# EAGLE library part PROM21 (library PT21)
This file is part of the ReProm Project DISCLAIMER: EVERYTHING IS PROVIDED AS IS, WITHOUT WARRANTY OF ANY KIND, THE DESIGN HASN'T BEEN VERIFIED, JUST FOR YOUR REFERENCE. NOT RESPONSIBLE FOR THE QUALITY. If you find any issues with this file, please create an issue in the repo github.com/ReisWeirdStuff/ReProm/
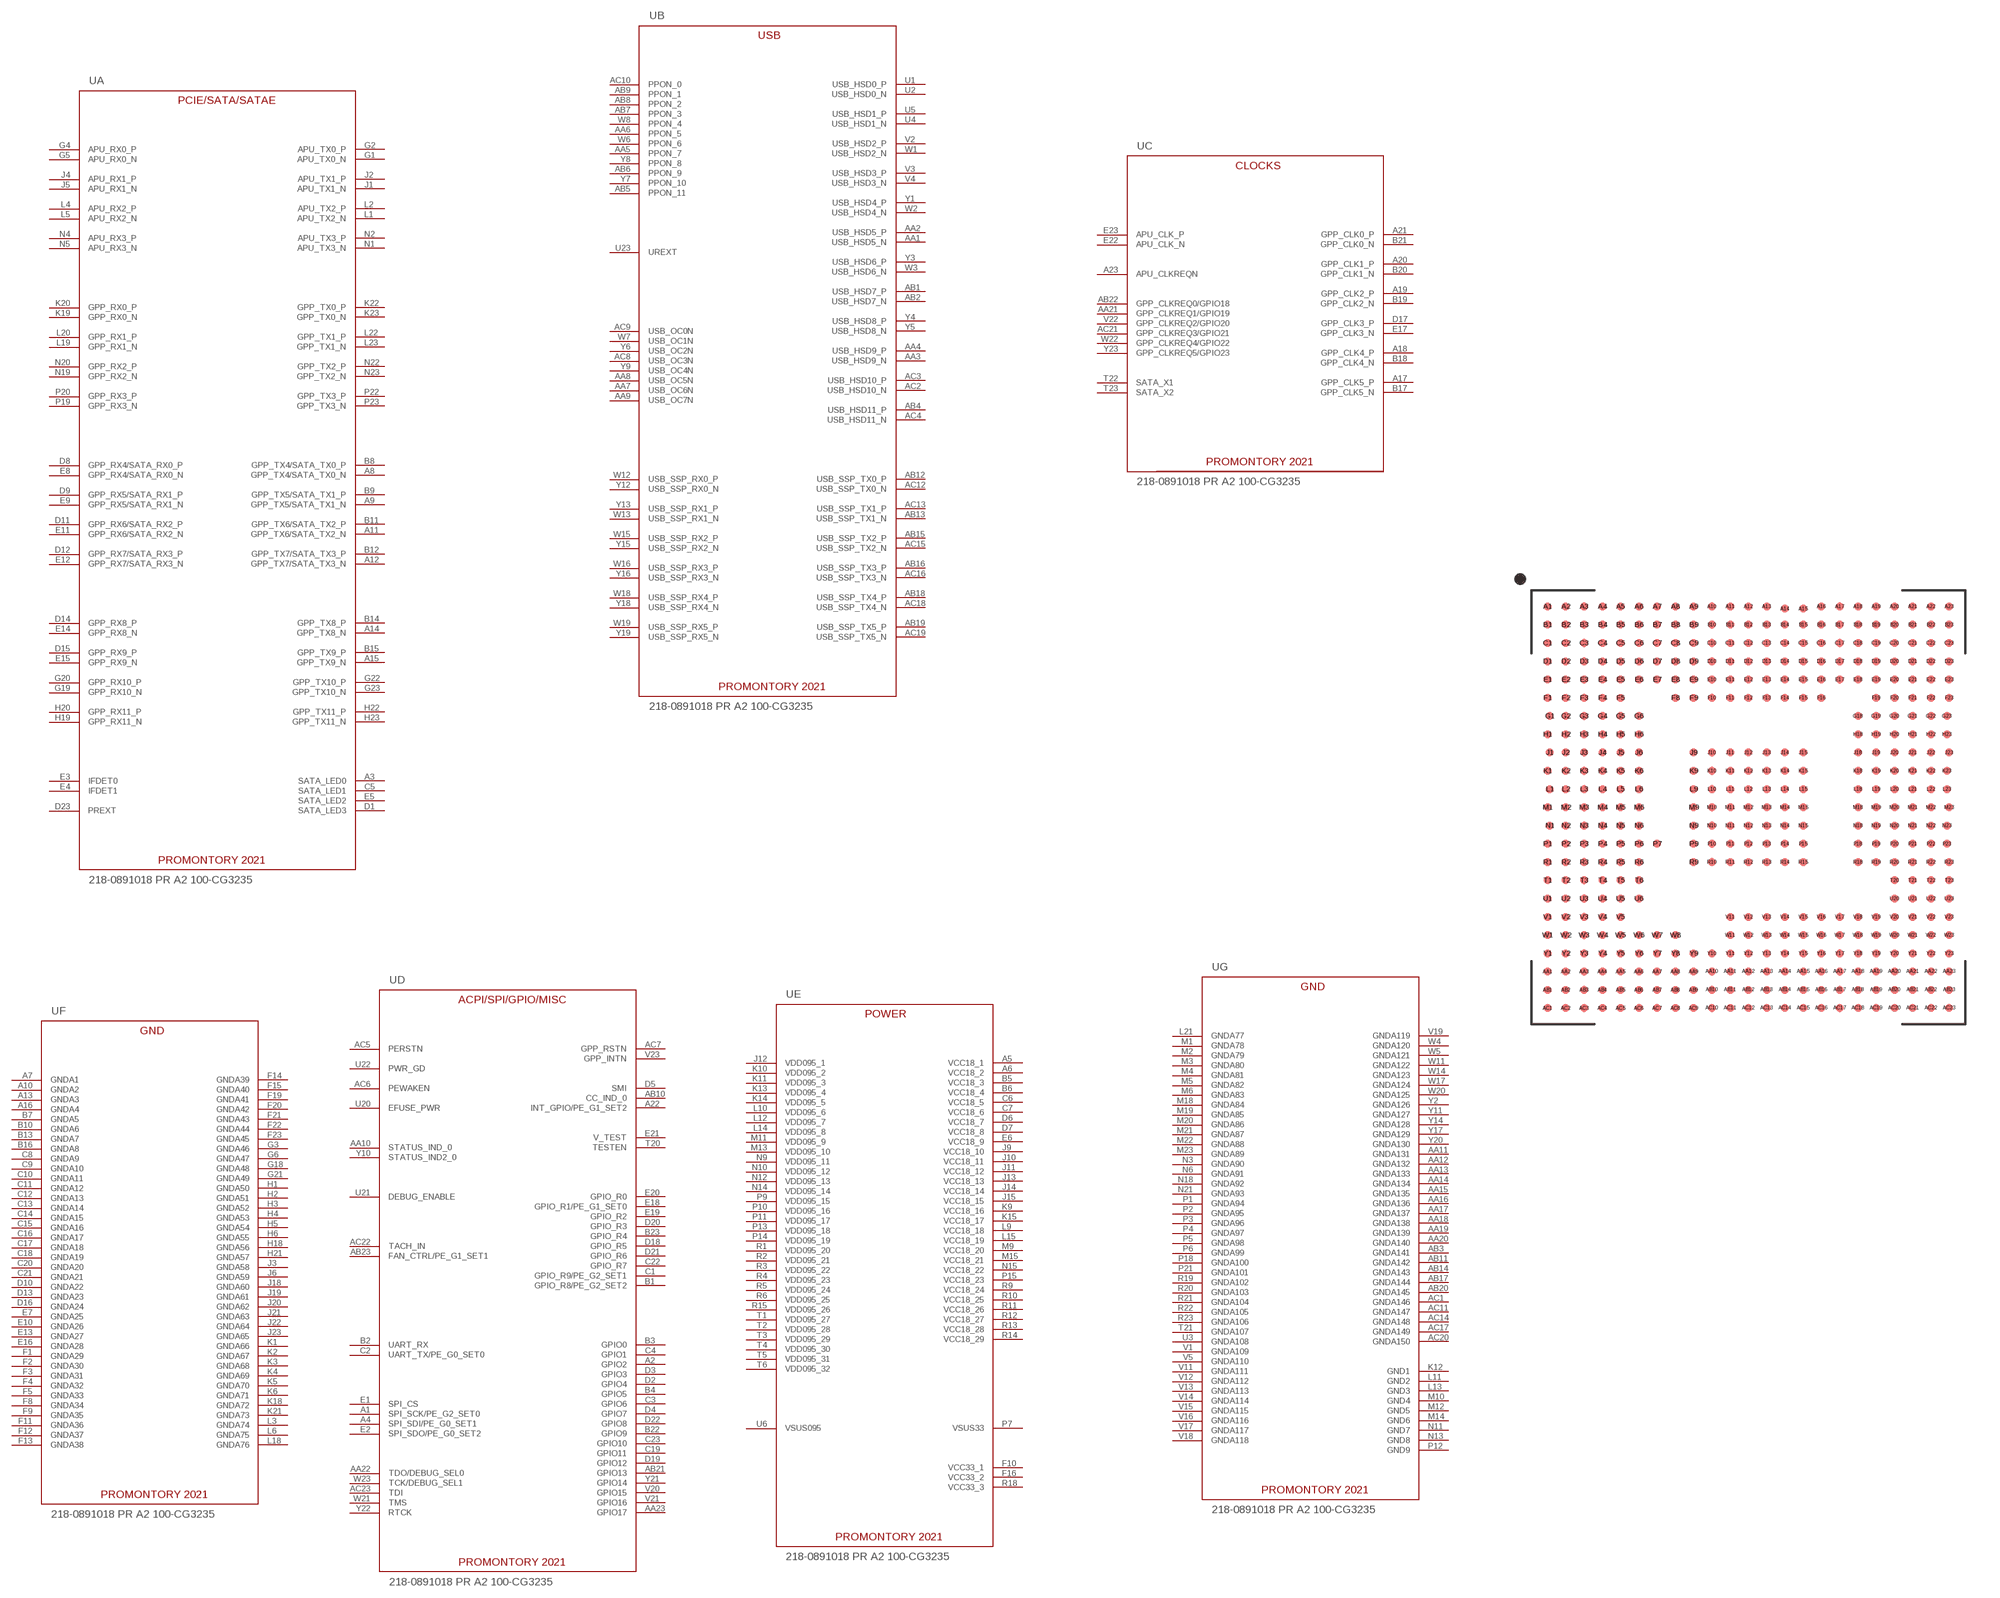
[diagram p0: symbol with the pads of PROM21_LFBGA_443P; footprint PROM21_LFBGA_443P]

Designator prefix -; gates A=PROM21_A B=PROM21_B C=PROM21_C D=PROM21_D E=PROM21_E F=PROM21_F G=PROM21_G

## PROM21A2  [PROM21_LFBGA_443P]
A1  D:SPI_SCK/PE_G2_SET0
A2  D:GPIO2
A3  A:SATA_LED0
A4  D:SPI_SDI/PE_G0_SET1
A5  E:VCC18_1
A6  E:VCC18_2
A7  F:GNDA1
A8  A:GPP_TX4/SATA_TX0_N
A9  A:GPP_TX5/SATA_TX1_N
A10  F:GNDA2
A11  A:GPP_TX6/SATA_TX2_N
A12  A:GPP_TX7/SATA_TX3_N
A13  F:GNDA3
A14  A:GPP_TX8_N
A15  A:GPP_TX9_N
A16  F:GNDA4
A17  C:GPP_CLK5_P
A18  C:GPP_CLK4_P
A19  C:GPP_CLK2_P
A20  C:GPP_CLK1_P
A21  C:GPP_CLK0_P
A22  D:INT_GPIO/PE_G1_SET2
A23  C:APU_CLKREQN
AA1  B:USB_HSD5_N
AA2  B:USB_HSD5_P
AA3  B:USB_HSD9_N
AA4  B:USB_HSD9_P
AA5  B:PPON_7
AA6  B:PPON_5
AA7  B:USB_OC6N
AA8  B:USB_OC5N
AA9  B:USB_OC7N
AA10  D:STATUS_IND_0
AA11  G:GNDA131
AA12  G:GNDA132
AA13  G:GNDA133
AA14  G:GNDA134
AA15  G:GNDA135
AA16  G:GNDA136
AA17  G:GNDA137
AA18  G:GNDA138
AA19  G:GNDA139
AA20  G:GNDA140
AA21  C:GPP_CLKREQ1/GPIO19
AA22  D:TDO/DEBUG_SEL0
AA23  D:GPIO17
AB1  B:USB_HSD7_P
AB2  B:USB_HSD7_N
AB3  G:GNDA141
AB4  B:USB_HSD11_P
AB5  B:PPON_11
AB6  B:PPON_9
AB7  B:PPON_3
AB8  B:PPON_2
AB9  B:PPON_1
AB10  D:CC_IND_0
AB11  G:GNDA142
AB12  B:USB_SSP_TX0_P
AB13  B:USB_SSP_TX1_N
AB14  G:GNDA143
AB15  B:USB_SSP_TX2_P
AB16  B:USB_SSP_TX3_P
AB17  G:GNDA144
AB18  B:USB_SSP_TX4_P
AB19  B:USB_SSP_TX5_P
AB20  G:GNDA145
AB21  D:GPIO13
AB22  C:GPP_CLKREQ0/GPIO18
AB23  D:FAN_CTRL/PE_G1_SET1
AC1  G:GNDA146
AC2  B:USB_HSD10_N
AC3  B:USB_HSD10_P
AC4  B:USB_HSD11_N
AC5  D:PERSTN
AC6  D:PEWAKEN
AC7  D:GPP_RSTN
AC8  B:USB_OC3N
AC9  B:USB_OC0N
AC10  B:PPON_0
AC11  G:GNDA147
AC12  B:USB_SSP_TX0_N
AC13  B:USB_SSP_TX1_P
AC14  G:GNDA148
AC15  B:USB_SSP_TX2_N
AC16  B:USB_SSP_TX3_N
AC17  G:GNDA149
AC18  B:USB_SSP_TX4_N
AC19  B:USB_SSP_TX5_N
AC20  G:GNDA150
AC21  C:GPP_CLKREQ3/GPIO21
AC22  D:TACH_IN
AC23  D:TDI
B1  D:GPIO_R8/PE_G2_SET2
B2  D:UART_RX
B3  D:GPIO0
B4  D:GPIO5
B5  E:VCC18_3
B6  E:VCC18_4
B7  F:GNDA5
B8  A:GPP_TX4/SATA_TX0_P
B9  A:GPP_TX5/SATA_TX1_P
B10  F:GNDA6
B11  A:GPP_TX6/SATA_TX2_P
B12  A:GPP_TX7/SATA_TX3_P
B13  F:GNDA7
B14  A:GPP_TX8_P
B15  A:GPP_TX9_P
B16  F:GNDA8
B17  C:GPP_CLK5_N
B18  C:GPP_CLK4_N
B19  C:GPP_CLK2_N
B20  C:GPP_CLK1_N
B21  C:GPP_CLK0_N
B22  D:GPIO9
B23  D:GPIO_R4
C1  D:GPIO_R9/PE_G2_SET1
C2  D:UART_TX/PE_G0_SET0
C3  D:GPIO6
C4  D:GPIO1
C5  A:SATA_LED1
C6  E:VCC18_5
C7  E:VCC18_6
C8  F:GNDA9
C9  F:GNDA10
C10  F:GNDA11
C11  F:GNDA12
C12  F:GNDA13
C13  F:GNDA14
C14  F:GNDA15
C15  F:GNDA16
C16  F:GNDA17
C17  F:GNDA18
C18  F:GNDA19
C19  D:GPIO11
C20  F:GNDA20
C21  F:GNDA21
C22  D:GPIO_R7
C23  D:GPIO10
D1  A:SATA_LED3
D2  D:GPIO4
D3  D:GPIO3
D4  D:GPIO7
D5  D:SMI
D6  E:VCC18_7
D7  E:VCC18_8
D8  A:GPP_RX4/SATA_RX0_P
D9  A:GPP_RX5/SATA_RX1_P
D10  F:GNDA22
D11  A:GPP_RX6/SATA_RX2_P
D12  A:GPP_RX7/SATA_RX3_P
D13  F:GNDA23
D14  A:GPP_RX8_P
D15  A:GPP_RX9_P
D16  F:GNDA24
D17  C:GPP_CLK3_P
D18  D:GPIO_R5
D19  D:GPIO12
D20  D:GPIO_R3
D21  D:GPIO_R6
D22  D:GPIO8
D23  A:PREXT
E1  D:SPI_CS
E2  D:SPI_SDO/PE_G0_SET2
E3  A:IFDET0
E4  A:IFDET1
E5  A:SATA_LED2
E6  E:VCC18_9
E7  F:GNDA25
E8  A:GPP_RX4/SATA_RX0_N
E9  A:GPP_RX5/SATA_RX1_N
E10  F:GNDA26
E11  A:GPP_RX6/SATA_RX2_N
E12  A:GPP_RX7/SATA_RX3_N
E13  F:GNDA27
E14  A:GPP_RX8_N
E15  A:GPP_RX9_N
E16  F:GNDA28
E17  C:GPP_CLK3_N
E18  D:GPIO_R1/PE_G1_SET0
E19  D:GPIO_R2
E20  D:GPIO_R0
E21  D:V_TEST
E22  C:APU_CLK_N
E23  C:APU_CLK_P
F1  F:GNDA29
F2  F:GNDA30
F3  F:GNDA31
F4  F:GNDA32
F5  F:GNDA33
F8  F:GNDA34
F9  F:GNDA35
F10  E:VCC33_1
F11  F:GNDA36
F12  F:GNDA37
F13  F:GNDA38
F14  F:GNDA39
F15  F:GNDA40
F16  E:VCC33_2
F19  F:GNDA41
F20  F:GNDA42
F21  F:GNDA43
F22  F:GNDA44
F23  F:GNDA45
G1  A:APU_TX0_N
G2  A:APU_TX0_P
G3  F:GNDA46
G4  A:APU_RX0_P
G5  A:APU_RX0_N
G6  F:GNDA47
G18  F:GNDA48
G19  A:GPP_RX10_N
G20  A:GPP_RX10_P
G21  F:GNDA49
G22  A:GPP_TX10_P
G23  A:GPP_TX10_N
H1  F:GNDA50
H2  F:GNDA51
H3  F:GNDA52
H4  F:GNDA53
H5  F:GNDA54
H6  F:GNDA55
H18  F:GNDA56
H19  A:GPP_RX11_N
H20  A:GPP_RX11_P
H21  F:GNDA57
H22  A:GPP_TX11_P
H23  A:GPP_TX11_N
J1  A:APU_TX1_N
J2  A:APU_TX1_P
J3  F:GNDA58
J4  A:APU_RX1_P
J5  A:APU_RX1_N
J6  F:GNDA59
J9  E:VCC18_10
J10  E:VCC18_11
J11  E:VCC18_12
J12  E:VDD095_1
J13  E:VCC18_13
J14  E:VCC18_14
J15  E:VCC18_15
J18  F:GNDA60
J19  F:GNDA61
J20  F:GNDA62
J21  F:GNDA63
J22  F:GNDA64
J23  F:GNDA65
K1  F:GNDA66
K2  F:GNDA67
K3  F:GNDA68
K4  F:GNDA69
K5  F:GNDA70
K6  F:GNDA71
K9  E:VCC18_16
K10  E:VDD095_2
K11  E:VDD095_3
K12  G:GND1
K13  E:VDD095_4
K14  E:VDD095_5
K15  E:VCC18_17
K18  F:GNDA72
K19  A:GPP_RX0_N
K20  A:GPP_RX0_P
K21  F:GNDA73
K22  A:GPP_TX0_P
K23  A:GPP_TX0_N
L1  A:APU_TX2_N
L2  A:APU_TX2_P
L3  F:GNDA74
L4  A:APU_RX2_P
L5  A:APU_RX2_N
L6  F:GNDA75
L9  E:VCC18_18
L10  E:VDD095_6
L11  G:GND2
L12  E:VDD095_7
L13  G:GND3
L14  E:VDD095_8
L15  E:VCC18_19
L18  F:GNDA76
L19  A:GPP_RX1_N
L20  A:GPP_RX1_P
L21  G:GNDA77
L22  A:GPP_TX1_P
L23  A:GPP_TX1_N
M1  G:GNDA78
M2  G:GNDA79
M3  G:GNDA80
M4  G:GNDA81
M5  G:GNDA82
M6  G:GNDA83
M9  E:VCC18_20
M10  G:GND4
M11  E:VDD095_9
M12  G:GND5
M13  E:VDD095_10
M14  G:GND6
M15  E:VCC18_21
M18  G:GNDA84
M19  G:GNDA85
M20  G:GNDA86
M21  G:GNDA87
M22  G:GNDA88
M23  G:GNDA89
N1  A:APU_TX3_N
N2  A:APU_TX3_P
N3  G:GNDA90
N4  A:APU_RX3_P
N5  A:APU_RX3_N
N6  G:GNDA91
N9  E:VDD095_11
N10  E:VDD095_12
N11  G:GND7
N12  E:VDD095_13
N13  G:GND8
N14  E:VDD095_14
N15  E:VCC18_22
N18  G:GNDA92
N19  A:GPP_RX2_N
N20  A:GPP_RX2_P
N21  G:GNDA93
N22  A:GPP_TX2_P
N23  A:GPP_TX2_N
P1  G:GNDA94
P2  G:GNDA95
P3  G:GNDA96
P4  G:GNDA97
P5  G:GNDA98
P6  G:GNDA99
P7  E:VSUS33
P9  E:VDD095_15
P10  E:VDD095_16
P11  E:VDD095_17
P12  G:GND9
P13  E:VDD095_18
P14  E:VDD095_19
P15  E:VCC18_23
P18  G:GNDA100
P19  A:GPP_RX3_N
P20  A:GPP_RX3_P
P21  G:GNDA101
P22  A:GPP_TX3_P
P23  A:GPP_TX3_N
R1  E:VDD095_20
R2  E:VDD095_21
R3  E:VDD095_22
R4  E:VDD095_23
R5  E:VDD095_24
R6  E:VDD095_25
R9  E:VCC18_24
R10  E:VCC18_25
R11  E:VCC18_26
R12  E:VCC18_27
R13  E:VCC18_28
R14  E:VCC18_29
R15  E:VDD095_26
R18  E:VCC33_3
R19  G:GNDA102
R20  G:GNDA103
R21  G:GNDA104
R22  G:GNDA105
R23  G:GNDA106
T1  E:VDD095_27
T2  E:VDD095_28
T3  E:VDD095_29
T4  E:VDD095_30
T5  E:VDD095_31
T6  E:VDD095_32
T20  D:TESTEN
T21  G:GNDA107
T22  C:SATA_X1
T23  C:SATA_X2
U1  B:USB_HSD0_P
U2  B:USB_HSD0_N
U3  G:GNDA108
U4  B:USB_HSD1_N
U5  B:USB_HSD1_P
U6  E:VSUS095
U20  D:EFUSE_PWR
U21  D:DEBUG_ENABLE
U22  D:PWR_GD
U23  B:UREXT
V1  G:GNDA109
V2  B:USB_HSD2_P
V3  B:USB_HSD3_P
V4  B:USB_HSD3_N
V5  G:GNDA110
V11  G:GNDA111
V12  G:GNDA112
V13  G:GNDA113
V14  G:GNDA114
V15  G:GNDA115
V16  G:GNDA116
V17  G:GNDA117
V18  G:GNDA118
V19  G:GNDA119
V20  D:GPIO15
V21  D:GPIO16
V22  C:GPP_CLKREQ2/GPIO20
V23  D:GPP_INTN
W1  B:USB_HSD2_N
W2  B:USB_HSD4_N
W3  B:USB_HSD6_N
W4  G:GNDA120
W5  G:GNDA121
W6  B:PPON_6
W7  B:USB_OC1N
W8  B:PPON_4
W11  G:GNDA122
W12  B:USB_SSP_RX0_P
W13  B:USB_SSP_RX1_N
W14  G:GNDA123
W15  B:USB_SSP_RX2_P
W16  B:USB_SSP_RX3_P
W17  G:GNDA124
W18  B:USB_SSP_RX4_P
W19  B:USB_SSP_RX5_P
W20  G:GNDA125
W21  D:TMS
W22  C:GPP_CLKREQ4/GPIO22
W23  D:TCK/DEBUG_SEL1
Y1  B:USB_HSD4_P
Y2  G:GNDA126
Y3  B:USB_HSD6_P
Y4  B:USB_HSD8_P
Y5  B:USB_HSD8_N
Y6  B:USB_OC2N
Y7  B:PPON_10
Y8  B:PPON_8
Y9  B:USB_OC4N
Y10  D:STATUS_IND2_0
Y11  G:GNDA127
Y12  B:USB_SSP_RX0_N
Y13  B:USB_SSP_RX1_P
Y14  G:GNDA128
Y15  B:USB_SSP_RX2_N
Y16  B:USB_SSP_RX3_N
Y17  G:GNDA129
Y18  B:USB_SSP_RX4_N
Y19  B:USB_SSP_RX5_N
Y20  G:GNDA130
Y21  D:GPIO14
Y22  D:RTCK
Y23  C:GPP_CLKREQ5/GPIO23

## Footprint PROM21_LFBGA_443P (pad centres in mm)
Package Description Package Type: FC-BGA Package Size: 19.00 x 19.00 x 2.1 mm Package Pins: 443 Pins Package BGA Pitch: 800μm
smd 0.35 x 0.35: A1 -8.8,8.8; A2 -8,8.8; A3 -7.2,8.8; A4 -6.4,8.8; A5 -5.6,8.8; A6 -4.8,8.8; A7 -4,8.8; A8 -3.2,8.8; A9 -2.4,8.8; A10 -1.6,8.8; A11 -0.8,8.8; A12 0,8.8; A13 0.8,8.8; A14 1.6,8.7; A15 2.4,8.7; A16 3.2,8.8; A17 4,8.8; A18 4.8,8.8; A19 5.6,8.8; A20 6.4,8.8; A21 7.2,8.8; A22 8,8.8; A23 8.8,8.8; AA1 -8.8,-7.2; AA2 -8,-7.2; AA3 -7.2,-7.2; AA4 -6.4,-7.2; AA5 -5.6,-7.2; AA6 -4.8,-7.2; AA7 -4,-7.2; AA8 -3.2,-7.2; AA9 -2.4,-7.2; AA10 -1.6,-7.2; AA11 -0.8,-7.2; AA12 0,-7.2; AA13 0.8,-7.2; AA14 1.6,-7.2; AA15 2.4,-7.2; AA16 3.2,-7.2; AA17 4,-7.2; AA18 4.8,-7.2; AA19 5.6,-7.2; AA20 6.4,-7.2; AA21 7.2,-7.2; AA22 8,-7.2; AA23 8.8,-7.2; AB1 -8.8,-8; AB2 -8,-8; AB3 -7.2,-8; AB4 -6.4,-8; AB5 -5.6,-8; AB6 -4.8,-8; AB7 -4,-8; AB8 -3.2,-8; AB9 -2.4,-8; AB10 -1.6,-8; AB11 -0.8,-8; AB12 0,-8; AB13 0.8,-8; AB14 1.6,-8; AB15 2.4,-8; AB16 3.2,-8; AB17 4,-8; AB18 4.8,-8; AB19 5.6,-8; AB20 6.4,-8; AB21 7.2,-8; AB22 8,-8; AB23 8.8,-8; AC1 -8.8,-8.8; AC2 -8,-8.8; AC3 -7.2,-8.8; AC4 -6.4,-8.8; AC5 -5.6,-8.8; AC6 -4.8,-8.8; AC7 -4,-8.8; AC8 -3.2,-8.8; AC9 -2.4,-8.8; AC10 -1.6,-8.8; AC11 -0.8,-8.8; AC12 0,-8.8; AC13 0.8,-8.8; AC14 1.6,-8.8; AC15 2.4,-8.8; AC16 3.2,-8.8; AC17 4,-8.8; AC18 4.8,-8.8; AC19 5.6,-8.8; AC20 6.4,-8.8; AC21 7.2,-8.8; AC22 8,-8.8; AC23 8.8,-8.8; B1 -8.8,8; B2 -8,8; B3 -7.2,8; B4 -6.4,8; B5 -5.6,8; B6 -4.8,8; B7 -4,8; B8 -3.2,8; B9 -2.4,8; B10 -1.6,8; B11 -0.8,8; B12 0,8; B13 0.8,8; B14 1.6,8; B15 2.4,8; B16 3.2,8; B17 4,8; B18 4.8,8; B19 5.6,8; B20 6.4,8; B21 7.2,8; B22 8,8; B23 8.8,8; C1 -8.8,7.2; C2 -8,7.2; C3 -7.2,7.2; C4 -6.4,7.2; C5 -5.6,7.2; C6 -4.8,7.2; C7 -4,7.2; C8 -3.2,7.2; C9 -2.4,7.2; C10 -1.6,7.2; C11 -0.8,7.2; C12 0,7.2; C13 0.8,7.2; C14 1.6,7.2; C15 2.4,7.2; C16 3.2,7.2; C17 4,7.2; C18 4.8,7.2; C19 5.6,7.2; C20 6.4,7.2; C21 7.2,7.2; C22 8,7.2; C23 8.8,7.2; D1 -8.8,6.4; D2 -8,6.4; D3 -7.2,6.4; D4 -6.4,6.4; D5 -5.6,6.4; D6 -4.8,6.4; D7 -4,6.4; D8 -3.2,6.4; D9 -2.4,6.4; D10 -1.6,6.4; D11 -0.8,6.4; D12 0,6.4; D13 0.8,6.4; D14 1.6,6.4; D15 2.4,6.4; D16 3.2,6.4; D17 4,6.4; D18 4.8,6.4; D19 5.6,6.4; D20 6.4,6.4; D21 7.2,6.4; D22 8,6.4; D23 8.8,6.4; E1 -8.8,5.6; E2 -8,5.6; E3 -7.2,5.6; E4 -6.4,5.6; E5 -5.6,5.6; E6 -4.8,5.6; E7 -4,5.6; E8 -3.2,5.6; E9 -2.4,5.6; E10 -1.6,5.6; E11 -0.8,5.6; E12 0,5.6; E13 0.8,5.6; E14 1.6,5.6; E15 2.4,5.6; E16 3.2,5.6; E17 4,5.6; E18 4.8,5.6; E19 5.6,5.6; E20 6.4,5.6; E21 7.2,5.6; E22 8,5.6; E23 8.8,5.6; F1 -8.8,4.8; F2 -8,4.8; F3 -7.2,4.8; F4 -6.4,4.8; F5 -5.6,4.8; F8 -3.2,4.8; F9 -2.4,4.8; F10 -1.6,4.8; F11 -0.8,4.8; F12 0,4.8; F13 0.8,4.8; F14 1.6,4.8; F15 2.4,4.8; F16 3.2,4.8; F19 5.6,4.8; F20 6.4,4.8; F21 7.2,4.8; F22 8,4.8; F23 8.8,4.8; G1 -8.7,4; G2 -8,4; G3 -7.2,4; G4 -6.4,4; G5 -5.6,4; G6 -4.8,4; G18 4.8,4; G19 5.6,4; G20 6.4,4; G21 7.2,4; G22 8,4; G23 8.7,4; H1 -8.8,3.2; H2 -8,3.2; H3 -7.2,3.2; H4 -6.4,3.2; H5 -5.6,3.2; H6 -4.8,3.2; H18 4.8,3.2; H19 5.6,3.2; H20 6.4,3.2; H21 7.2,3.2; H22 8,3.2; H23 8.7,3.2; J1 -8.7,2.4; J2 -8,2.4; J3 -7.2,2.4; J4 -6.4,2.4; J5 -5.6,2.4; J6 -4.8,2.4; J9 -2.4,2.4; J10 -1.6,2.4; J11 -0.8,2.4; J12 0,2.4; J13 0.8,2.4; J14 1.6,2.4; J15 2.4,2.4; J18 4.8,2.4; J19 5.6,2.4; J20 6.4,2.4; J21 7.2,2.4; J22 8,2.4; J23 8.8,2.4; K1 -8.8,1.6; K2 -8,1.6; K3 -7.2,1.6; K4 -6.4,1.6; K5 -5.6,1.6; K6 -4.8,1.6; K9 -2.4,1.6; K10 -1.6,1.6; K11 -0.8,1.6; K12 0,1.6; K13 0.8,1.6; K14 1.6,1.6; K15 2.4,1.6; K18 4.8,1.6; K19 5.6,1.6; K20 6.4,1.6; K21 7.2,1.6; K22 8,1.6; K23 8.7,1.6; L1 -8.7,0.8; L2 -8,0.8; L3 -7.2,0.8; L4 -6.4,0.8; L5 -5.6,0.8; L6 -4.8,0.8; L9 -2.4,0.8; L10 -1.6,0.8; L11 -0.8,0.8; L12 0,0.8; L13 0.8,0.8; L14 1.6,0.8; L15 2.4,0.8; L18 4.8,0.8; L19 5.6,0.8; L20 6.4,0.8; L21 7.2,0.8; L22 8,0.8; L23 8.7,0.8; M1 -8.8,0; M2 -8,0; M3 -7.2,0; M4 -6.4,0; M5 -5.6,0; M6 -4.8,0; M9 -2.4,0; M10 -1.6,0; M11 -0.8,0; M12 0,0; M13 0.8,0; M14 1.6,0; M15 2.4,0; M18 4.8,0; M19 5.6,0; M20 6.4,0; M21 7.2,0; M22 8,0; M23 8.8,0; N1 -8.7,-0.8; N2 -8,-0.8; N3 -7.2,-0.8; N4 -6.4,-0.8; N5 -5.6,-0.8; N6 -4.8,-0.8; N9 -2.4,-0.8; N10 -1.6,-0.8; N11 -0.8,-0.8; N12 0,-0.8; N13 0.8,-0.8; N14 1.6,-0.8; N15 2.4,-0.8; N18 4.8,-0.8; N19 5.6,-0.8; N20 6.4,-0.8; N21 7.2,-0.8; N22 8,-0.8; N23 8.7,-0.8; P1 -8.8,-1.6; P2 -8,-1.6; P3 -7.2,-1.6; P4 -6.4,-1.6; P5 -5.6,-1.6; P6 -4.8,-1.6; P7 -4,-1.6; P9 -2.4,-1.6; P10 -1.6,-1.6; P11 -0.8,-1.6; P12 0,-1.6; P13 0.8,-1.6; P14 1.6,-1.6; P15 2.4,-1.6; P18 4.8,-1.6; P19 5.6,-1.6; P20 6.4,-1.6; P21 7.2,-1.6; P22 8,-1.6; P23 8.7,-1.6; R1 -8.8,-2.4; R2 -8,-2.4; R3 -7.2,-2.4; R4 -6.4,-2.4; R5 -5.6,-2.4; R6 -4.8,-2.4; R9 -2.4,-2.4; R10 -1.6,-2.4; R11 -0.8,-2.4; R12 0,-2.4; R13 0.8,-2.4; R14 1.6,-2.4; R15 2.4,-2.4; R18 4.8,-2.4; R19 5.6,-2.4; R20 6.4,-2.4; R21 7.2,-2.4; R22 8,-2.4; R23 8.8,-2.4; T1 -8.8,-3.2; T2 -8,-3.2; T3 -7.2,-3.2; T4 -6.4,-3.2; T5 -5.6,-3.2; T6 -4.8,-3.2; T20 6.4,-3.2; T21 7.2,-3.2; T22 8,-3.2; T23 8.8,-3.2; U1 -8.8,-4; U2 -8,-4; U3 -7.2,-4; U4 -6.4,-4; U5 -5.6,-4; U6 -4.8,-4; U20 6.4,-4; U21 7.2,-4; U22 8,-4; U23 8.8,-4; V1 -8.8,-4.8; V2 -8,-4.8; V3 -7.2,-4.8; V4 -6.4,-4.8; V5 -5.6,-4.8; V11 -0.8,-4.8; V12 0,-4.8; V13 0.8,-4.8; V14 1.6,-4.8; V15 2.4,-4.8; V16 3.2,-4.8; V17 4,-4.8; V18 4.8,-4.8; V19 5.6,-4.8; V20 6.4,-4.8; V21 7.2,-4.8; V22 8,-4.8; V23 8.8,-4.8; W1 -8.8,-5.6; W2 -8,-5.6; W3 -7.2,-5.6; W4 -6.4,-5.6; W5 -5.6,-5.6; W6 -4.8,-5.6; W7 -4,-5.6; W8 -3.2,-5.6; W11 -0.8,-5.6; W12 0,-5.6; W13 0.8,-5.6; W14 1.6,-5.6; W15 2.4,-5.6; W16 3.2,-5.6; W17 4,-5.6; W18 4.8,-5.6; W19 5.6,-5.6; W20 6.4,-5.6; W21 7.2,-5.6; W22 8,-5.6; W23 8.8,-5.6; Y1 -8.8,-6.4; Y2 -8,-6.4; Y3 -7.2,-6.4; Y4 -6.4,-6.4; Y5 -5.6,-6.4; Y6 -4.8,-6.4; Y7 -4,-6.4; Y8 -3.2,-6.4; Y9 -2.4,-6.4; Y10 -1.6,-6.4; Y11 -0.8,-6.4; Y12 0,-6.4; Y13 0.8,-6.4; Y14 1.6,-6.4; Y15 2.4,-6.4; Y16 3.2,-6.4; Y17 4,-6.4; Y18 4.8,-6.4; Y19 5.6,-6.4; Y20 6.4,-6.4; Y21 7.2,-6.4; Y22 8,-6.4; Y23 8.8,-6.4